# EAGLE library part TGL_D3 (library Switch)
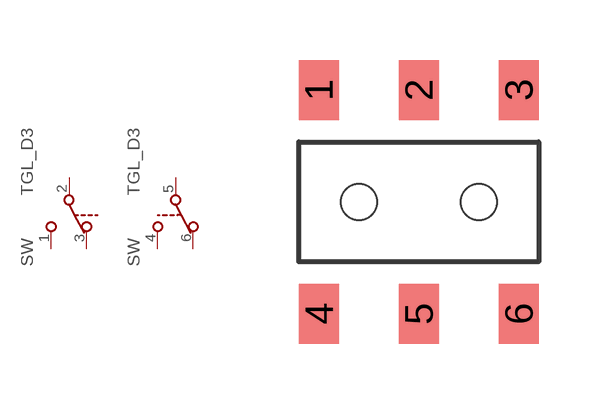
[diagram p3: symbol with the pads of EG1390A; footprint EG1390A]

Designator prefix SW; gates G$1=TGL_3- G$2=TGL_-3

## TGL_D3EG1390  [EG1390A]
1  G$1:1  pas
2  G$1:2  pas
3  G$1:3  pas
4  G$2:1  pas
5  G$2:2  pas
6  G$2:3  pas

## Footprint EG1390A (pad centres in mm)
EG1390 Producted by E SWITCH Store Information : Digi-Key :
smd 1 x 1.5: 1 -2.5,2.8; 2 0,2.8; 3 2.5,2.8; 4 -2.5,-2.8; 5 0,-2.8; 6 2.5,-2.8
hole 0.9 at -1.5,0
hole 0.9 at 1.5,0